# Altium footprint library Oscillator.PcbLib: 70 footprints (part 2 of 5)
Each footprint in its own frame and in the unit in brackets; x right, y up, seen from the top. Pads: shape width x height; smd on the part's side, far side on the other; paste and mask are expansions set on the pad; w line width, h text height; cw(c..) or ccw(c..) is an arc to the next point about the centre after c.
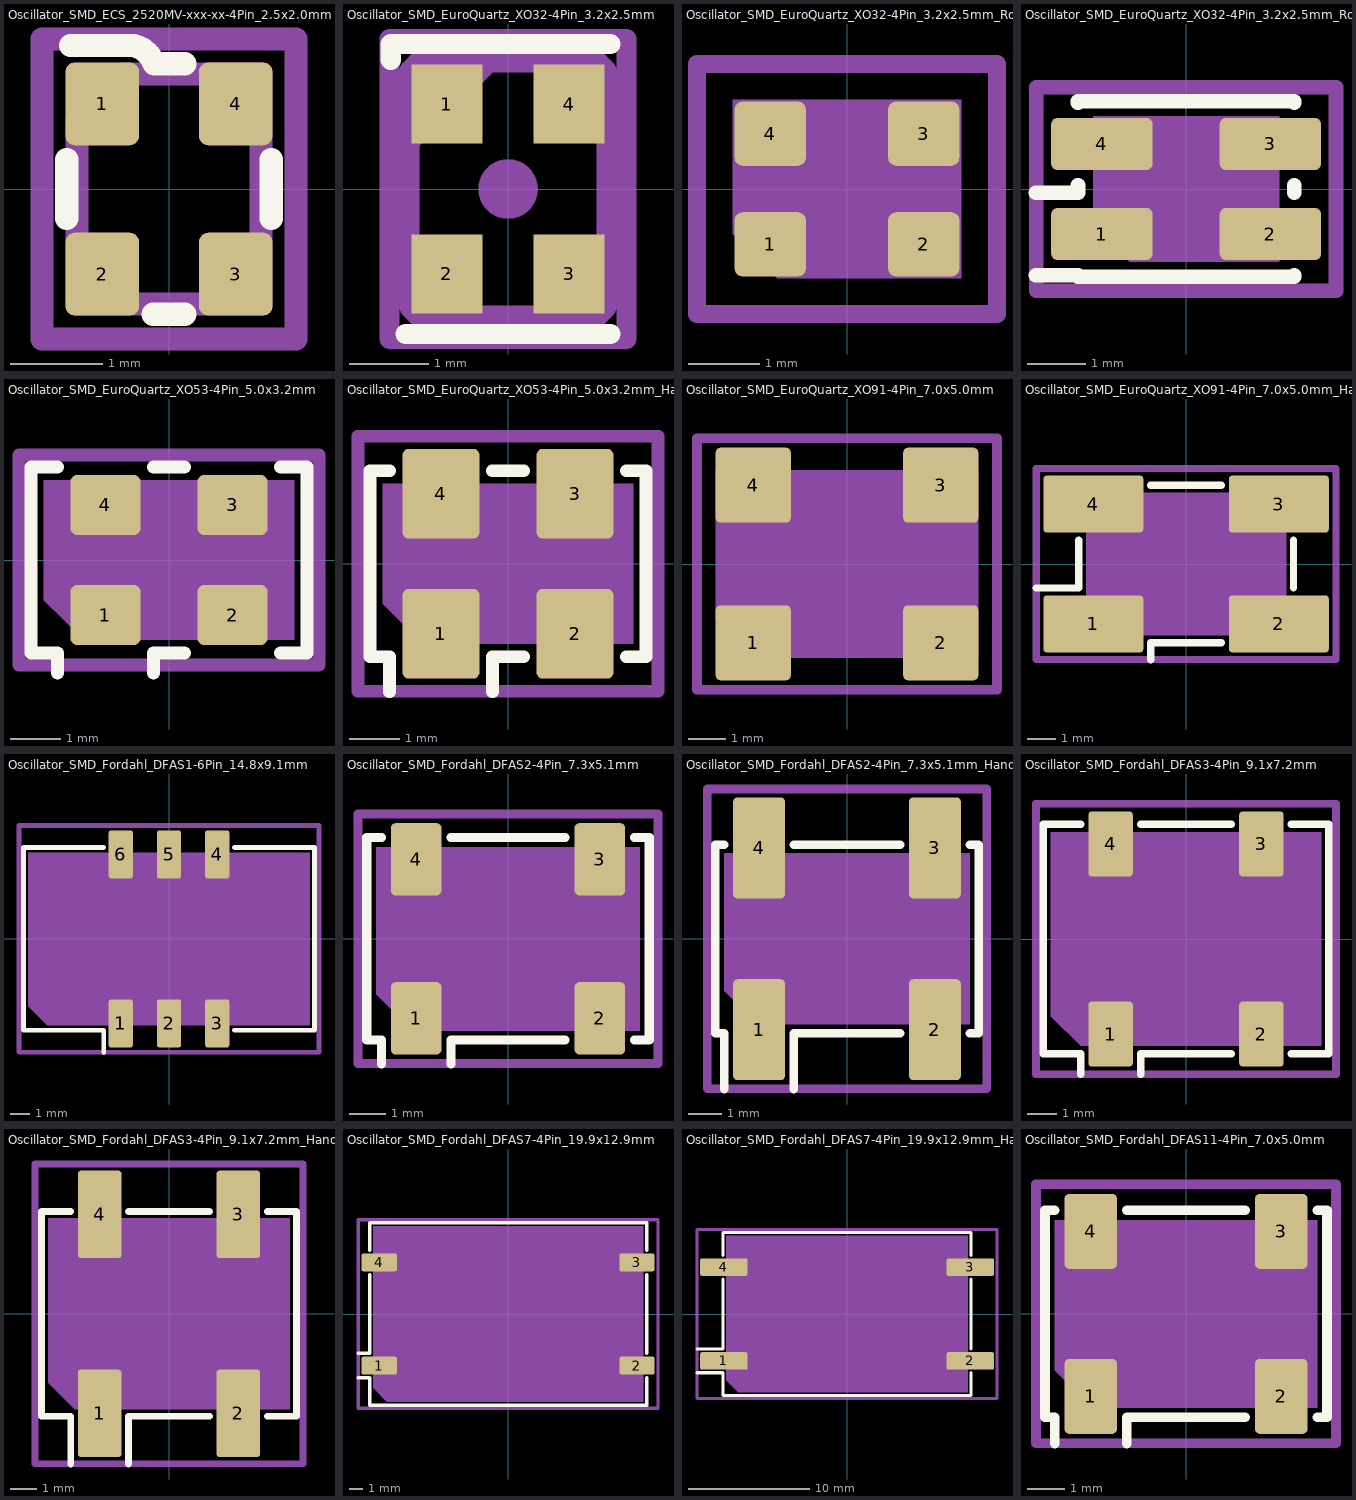
[diagram p1: the footprints below, top view; thin cyan lines are the x and y axes]

## Oscillator_SMD_ECS_2520MV-xxx-xx-4Pin_2.5x2.0mm [mm]
pads (4):
  rrect25% 0.8x0.9 smd: 1(-0.725,0.925) 2(-0.725,-0.925) 3(0.725,-0.925) 4(0.725,0.925)
F.SilkS:
  lines w0.254: -1.11,-0.32 -1.11,0.32 ; -1.07,1.56 -0.38,1.56 cw(c-0.47,1.24) -0.16,1.36 0.17,1.36 ; -0.17,-1.36 0.17,-1.36 ; 1.11,-0.32 1.11,0.32
Top Assembly:
  lines w0.254: -1,-1.25 1,-1.25 1,1.25 -0.5,1.25 -1,0.75 -1,-1.25
  text "'.Designator'" at 0.42,-2.023 h0.5
Top Courtyard:
  lines w0.254: -1.38,-1.63 1.38,-1.63 1.38,1.63 -1.38,1.63 -1.38,-1.63
Top Designator:
  text ".Designator" at -7.618,-0.583 h1.52

## Oscillator_SMD_EuroQuartz_XO32-4Pin_3.2x2.5mm [mm]
pads (4):
  rect 0.9x1 smd: 1(-0.775,1.075) 2(-0.775,-1.075) 3(0.775,-1.075) 4(0.775,1.075)
F.SilkS:
  lines w0.254: -1.485,1.635 -1.485,1.835 1.3,1.835 ; -1.3,-1.835 1.3,-1.835
Top Assembly:
  lines w0.254: -1.25,0.6 -0.25,1.6 ; -1.25,-1.5 -1.15,-1.6 1.15,-1.6 1.25,-1.5 1.25,1.5 1.15,1.6 -1.15,1.6 -1.25,1.5 -1.25,-1.5
  text "'.Designator'" at 0.588,-2.833 h0.7
Top Courtyard:
  lines w0.254: -1.5,-1.9 1.5,-1.9 1.5,1.9 -1.5,1.9 -1.5,-1.9
Top Designator:
  text ".Designator" at -7.618,-0.613 h1.52
Top Glue Points:
  circle w0.254: c0,0 r0.25
  circle w0.254: c0,0 r0.208
  circle w0.254: c0,0 r0.133
  circle w0.254: c0,0 r0.058

## Oscillator_SMD_EuroQuartz_XO32-4Pin_3.2x2.5mm_RotB [mm]
pads (4):
  rrect25% 1x0.9 smd: 1(-1.075,-0.775) 2(1.075,-0.775) 3(1.075,0.775) 4(-1.075,0.775)
Top Assembly:
  region: 1.6,-1.25 -0.975,-1.25 -1.6,-0.625 -1.6,1.25 1.6,1.25
  text "'.Designator'" at -3.237,-0.672 h0.8
Top Courtyard:
  lines w0.254: -2.1,-1.75 2.1,-1.75 2.1,1.75 -2.1,1.75 -2.1,-1.75
Top Designator:
  text ".Designator" at -7.738,-0.508 h1.52
Top Glue Points:
  circle w0.254: c0,0 r0.25

## Oscillator_SMD_EuroQuartz_XO32-4Pin_3.2x2.5mm_RotB_HandSoldering [mm]
pads (4):
  rrect25% 1.75x0.9 smd: 1(-1.45,-0.775) 2(1.45,-0.775) 3(1.45,0.775) 4(-1.45,0.775)
F.SilkS:
  lines w0.254: -2.585,-1.485 -1.86,-1.485 -1.86,-1.51 1.86,-1.51 1.86,-1.485 ; -2.585,-0.065 -1.86,-0.065 -1.86,0.065 ; -1.86,1.485 -1.86,1.51 1.86,1.51 1.86,1.485 ; 1.86,-0.065 1.86,0.065
Top Assembly:
  region: 1.6,-1.25 -0.975,-1.25 -1.6,-0.625 -1.6,1.25 1.6,1.25
  text "'.Designator'" at -3.237,-0.672 h0.8
Top Courtyard:
  lines w0.254: -2.58,-1.75 -2.58,1.75 2.58,1.75 2.58,-1.75 -2.58,-1.75
Top Designator:
  text ".Designator" at -7.738,-0.508 h1.52
Top Glue Points:
  circle w0.254: c0,0 r0.25

## Oscillator_SMD_EuroQuartz_XO53-4Pin_5.0x3.2mm [mm]
pads (4):
  rrect21% 1.4x1.2 smd: 1(-1.27,-1.1) 2(1.27,-1.1) 3(1.27,1.1) 4(-1.27,1.1)
F.SilkS:
  lines w0.254: -2.23,-2.26 -2.23,-1.86 -2.76,-1.86 -2.76,1.86 -2.23,1.86 ; -0.31,-2.26 -0.31,-1.86 0.31,-1.86 ; -0.31,1.86 0.31,1.86 ; 2.23,-1.86 2.76,-1.86 2.76,1.86 2.23,1.86
Top Assembly:
  region: 2.5,-1.6 -1.7,-1.6 -2.5,-0.8 -2.5,1.6 2.5,1.6
  text "'.Designator'" at -4.047,-0.84 h1
Top Courtyard:
  lines w0.254: -3,-2.1 3,-2.1 3,2.1 -3,2.1 -3,-2.1
Top Designator:
  text ".Designator" at -7.768,-0.588 h1.52
Top Glue Points:
  circle w0.254: c0,0 r0.5
3D body "Oscillator_SMD_EuroQuartz_XO53-4Pin_5.0x3.2mm.step": height 1, standoff 0, extent -2.5,-1.6 2.5,1.6

## Oscillator_SMD_EuroQuartz_XO53-4Pin_5.0x3.2mm_HandSoldering [mm]
pads (4):
  rrect16% 1.54x1.8 smd: 1(-1.34,-1.4) 2(1.34,-1.4) 3(1.34,1.4) 4(-1.34,1.4)
F.SilkS:
  lines w0.254: -2.37,-2.56 -2.37,-1.86 -2.76,-1.86 -2.76,1.86 -2.37,1.86 ; -0.31,-2.56 -0.31,-1.86 0.31,-1.86 ; -0.31,1.86 0.31,1.86 ; 2.37,-1.86 2.76,-1.86 2.76,1.86 2.37,1.86
Top Assembly:
  region: 2.5,-1.6 -1.7,-1.6 -2.5,-0.8 -2.5,1.6 2.5,1.6
  text "'.Designator'" at -4.047,-0.84 h1
Top Courtyard:
  lines w0.254: -3,-2.55 3,-2.55 3,2.55 -3,2.55 -3,-2.55
Top Designator:
  text ".Designator" at -7.768,-0.513 h1.52
Top Glue Points:
  circle w0.254: c0,0 r0.5
3D body "Oscillator_SMD_EuroQuartz_XO53-4Pin_5.0x3.2mm.step": height 1, standoff 0, extent -2.5,-1.6 2.5,1.6

## Oscillator_SMD_EuroQuartz_XO91-4Pin_7.0x5.0mm [mm]
pads (4):
  rrect12% 2x2 smd: 1(-2.5,-2.1) 2(2.5,-2.1) 3(2.5,2.1) 4(-2.5,2.1)
Top Assembly:
  region: 3.5,-2.5 -2.5,-2.5 -3.5,-1.5 -3.5,2.5 3.5,2.5
  text "'.Designator'" at -4.047,-0.84 h1
Top Courtyard:
  lines w0.254: -4,-3.35 -4,3.35 4,3.35 4,-3.35 -4,-3.35
Top Designator:
  text ".Designator" at -7.652,-0.508 h1.52
Top Glue Points:
  circle w0.254: c0,0 r1

## Oscillator_SMD_EuroQuartz_XO91-4Pin_7.0x5.0mm_HandSoldering [mm]
pads (4):
  rrect12% 3.5x2 smd: 1(-3.25,-2.1) 2(3.25,-2.1) 3(3.25,2.1) 4(-3.25,2.1)
F.SilkS:
  lines w0.254: -5.26,-0.84 -3.76,-0.84 -3.76,0.84 ; -1.24,-3.36 -1.24,-2.76 1.24,-2.76 ; -1.24,2.76 1.24,2.76 ; 3.76,-0.84 3.76,0.84
Top Assembly:
  region: 3.5,-2.5 -2.5,-2.5 -3.5,-1.5 -3.5,2.5 3.5,2.5
  text "'.Designator'" at -4.047,-0.84 h1
Top Courtyard:
  lines w0.254: -5.25,-3.35 5.25,-3.35 5.25,3.35 -5.25,3.35 -5.25,-3.35
Top Designator:
  text ".Designator" at -7.623,-0.513 h1.52
Top Glue Points:
  circle w0.254: c0,0 r1

## Oscillator_SMD_Fordahl_DFAS1-6Pin_14.8x9.1mm [mm]
pads (6):
  rrect20% 1.27x2.54 smd: 1(-2.54,-4.45) 2(0,-4.45) 3(2.54,-4.45) 4(2.54,4.45) 5(0,4.45) 6(-2.54,4.45)
F.SilkS:
  lines w0.254: -3.435,-5.98 -3.435,-4.81 -7.66,-4.81 -7.66,4.81 -3.435,4.81 ; 3.435,-4.81 7.66,-4.81 7.66,4.81 3.435,4.81
Top Assembly:
  region: 7.4,-4.55 -6.4,-4.55 -7.4,-3.55 -7.4,4.55 7.4,4.55
  text "'.Designator'" at -4.047,-0.84 h1
Top Courtyard:
  lines w0.254: -7.9,-5.97 7.9,-5.97 7.9,5.97 -7.9,5.97 -7.9,-5.97
Top Designator:
  text ".Designator" at -7.618,-0.513 h1.52
Top Glue Points:
  circle w0.254: c0,0 r0.25

## Oscillator_SMD_Fordahl_DFAS2-4Pin_7.3x5.1mm [mm]
pads (4):
  rrect18% 1.4x2 smd: 1(-2.54,-2.2) 2(2.54,-2.2) 3(2.54,2.2) 4(-2.54,2.2)
F.SilkS:
  lines w0.254: -3.5,-3.46 -3.5,-2.8 -3.91,-2.8 -3.91,2.8 -3.5,2.8 ; -1.58,-3.46 -1.58,-2.8 1.58,-2.8 ; -1.58,2.8 1.58,2.8 ; 3.5,-2.8 3.91,-2.8 3.91,2.8 3.5,2.8
Top Assembly:
  region: 3.65,-2.54 -2.65,-2.54 -3.65,-1.54 -3.65,2.54 3.65,2.54
  text "'.Designator'" at -4.047,-0.84 h1
Top Courtyard:
  lines w0.254: -4.15,-3.45 4.15,-3.45 4.15,3.45 -4.15,3.45 -4.15,-3.45
Top Designator:
  text ".Designator" at -7.618,-0.513 h1.52
Top Glue Points:
  circle w0.254: c0,0 r1

## Oscillator_SMD_Fordahl_DFAS2-4Pin_7.3x5.1mm_HandSoldering [mm]
pads (4):
  rrect16% 1.54x3 smd: 1(-2.61,-2.7) 2(2.61,-2.7) 3(2.61,2.7) 4(-2.61,2.7)
F.SilkS:
  lines w0.254: -3.64,-4.46 -3.64,-2.8 -3.91,-2.8 -3.91,2.8 -3.64,2.8 ; -1.58,-4.46 -1.58,-2.8 1.58,-2.8 ; -1.58,2.8 1.58,2.8 ; 3.64,-2.8 3.91,-2.8 3.91,2.8 3.64,2.8
Top Assembly:
  region: 3.65,-2.54 -2.65,-2.54 -3.65,-1.54 -3.65,2.54 3.65,2.54
  text "'.Designator'" at -4.047,-0.84 h1
Top Courtyard:
  lines w0.254: -4.15,-4.45 4.15,-4.45 4.15,4.45 -4.15,4.45 -4.15,-4.45
Top Designator:
  text ".Designator" at -7.618,-0.513 h1.52
Top Glue Points:
  circle w0.254: c0,0 r1

## Oscillator_SMD_Fordahl_DFAS3-4Pin_9.1x7.2mm [mm]
pads (4):
  rrect17% 1.5x2.2 smd: 1(-2.54,-3.2) 2(2.54,-3.2) 3(2.54,3.2) 4(-2.54,3.2)
F.SilkS:
  lines w0.254: -3.55,-4.56 -3.55,-3.86 -4.81,-3.86 -4.81,3.86 -3.55,3.86 ; -1.53,-4.56 -1.53,-3.86 1.53,-3.86 ; -1.53,3.86 1.53,3.86 ; 3.55,-3.86 4.81,-3.86 4.81,3.86 3.55,3.86
Top Assembly:
  region: 4.55,-3.6 -3.55,-3.6 -4.55,-2.6 -4.55,3.6 4.55,3.6
  text "'.Designator'" at -4.047,-0.84 h1
Top Courtyard:
  lines w0.254: -5.05,-4.56 5.05,-4.56 5.05,4.56 -5.05,4.56 -5.05,-4.56
Top Designator:
  text ".Designator" at -7.618,-0.508 h1.52
Top Glue Points:
  circle w0.254: c0,0 r1

## Oscillator_SMD_Fordahl_DFAS3-4Pin_9.1x7.2mm_HandSoldering [mm]
pads (4):
  rrect15% 1.65x3.3 smd: 1(-2.615,-3.75) 2(2.615,-3.75) 3(2.615,3.75) 4(-2.615,3.75)
F.SilkS:
  lines w0.254: -3.7,-5.66 -3.7,-3.86 -4.81,-3.86 -4.81,3.86 -3.7,3.86 ; -1.53,-5.66 -1.53,-3.86 1.53,-3.86 ; -1.53,3.86 1.53,3.86 ; 3.7,-3.86 4.81,-3.86 4.81,3.86 3.7,3.86
Top Assembly:
  region: 4.55,-3.6 -3.55,-3.6 -4.55,-2.6 -4.55,3.6 4.55,3.6
  text "'.Designator'" at -4.047,-0.84 h1
Top Courtyard:
  lines w0.254: -5.05,-5.65 5.05,-5.65 5.05,5.65 -5.05,5.65 -5.05,-5.65
Top Designator:
  text ".Designator" at -7.618,-0.513 h1.52
Top Glue Points:
  circle w0.254: c0,0 r1

## Oscillator_SMD_Fordahl_DFAS7-4Pin_19.9x12.9mm [mm]
pads (4):
  rrect19% 2.6x1.3 smd: 1(-9.5,-3.8) 2(9.5,-3.8) 3(9.5,3.8) 4(-9.5,3.8)
F.SilkS:
  lines w0.254: -11.06,-4.71 -10.21,-4.71 -10.21,-6.71 10.21,-6.71 10.21,-4.71 ; -11.06,-2.89 -10.21,-2.89 -10.21,2.89 ; -10.21,4.71 -10.21,6.71 10.21,6.71 10.21,4.71 ; 10.21,-2.89 10.21,2.89
Top Assembly:
  region: 9.95,-6.45 -8.95,-6.45 -9.95,-5.45 -9.95,6.45 9.95,6.45
  text "'.Designator'" at -4.047,-0.84 h1
Top Courtyard:
  lines w0.254: -11.05,-6.95 11.05,-6.95 11.05,6.95 -11.05,6.95 -11.05,-6.95
Top Designator:
  text ".Designator" at -7.623,-0.508 h1.52
Top Glue Points:
  circle w0.254: c0,0 r1

## Oscillator_SMD_Fordahl_DFAS7-4Pin_19.9x12.9mm_HandSoldering [mm]
pads (4):
  rrect17% 3.9x1.43 smd: 1(-10.15,-3.865) 2(10.15,-3.865) 3(10.15,3.865) 4(-10.15,3.865)
F.SilkS:
  lines w0.254: -12.36,-4.84 -10.21,-4.84 -10.21,-6.71 10.21,-6.71 10.21,-4.84 ; -12.36,-2.89 -10.21,-2.89 -10.21,2.89 ; -10.21,4.84 -10.21,6.71 10.21,6.71 10.21,4.84 ; 10.21,-2.89 10.21,2.89
Top Assembly:
  region: 9.95,-6.45 -8.95,-6.45 -9.95,-5.45 -9.95,6.45 9.95,6.45
  text "'.Designator'" at -4.047,-0.84 h1
Top Courtyard:
  lines w0.254: -12.35,-6.95 12.35,-6.95 12.35,6.95 -12.35,6.95 -12.35,-6.95
Top Designator:
  text ".Designator" at -7.623,-0.508 h1.52
Top Glue Points:
  circle w0.254: c0,0 r1

## Oscillator_SMD_Fordahl_DFAS11-4Pin_7.0x5.0mm [mm]
pads (4):
  rrect18% 1.4x2 smd: 1(-2.54,-2.2) 2(2.54,-2.2) 3(2.54,2.2) 4(-2.54,2.2)
F.SilkS:
  lines w0.254: -3.5,-3.46 -3.5,-2.76 -3.76,-2.76 -3.76,2.76 -3.5,2.76 ; -1.58,-3.46 -1.58,-2.76 1.58,-2.76 ; -1.58,2.76 1.58,2.76 ; 3.5,-2.76 3.76,-2.76 3.76,2.76 3.5,2.76
Top Assembly:
  region: 3.5,-2.5 -2.5,-2.5 -3.5,-1.5 -3.5,2.5 3.5,2.5
  text "'.Designator'" at -4.047,-0.84 h1
Top Courtyard:
  lines w0.254: -4,-3.45 4,-3.45 4,3.45 -4,3.45 -4,-3.45
Top Designator:
  text ".Designator" at -7.652,-0.513 h1.52
Top Glue Points:
  circle w0.254: c0,0 r1